# Altium footprint library PCB_Lib.PcbLib: 286 footprints (part 7 of 18)
Each footprint in its own frame and in the unit in brackets; x right, y up, seen from the top. Pads: shape width x height; smd on the part's side, far side on the other; paste and mask are expansions set on the pad; w line width, h text height; cw(c..) or ccw(c..) is an arc to the next point about the centre after c.
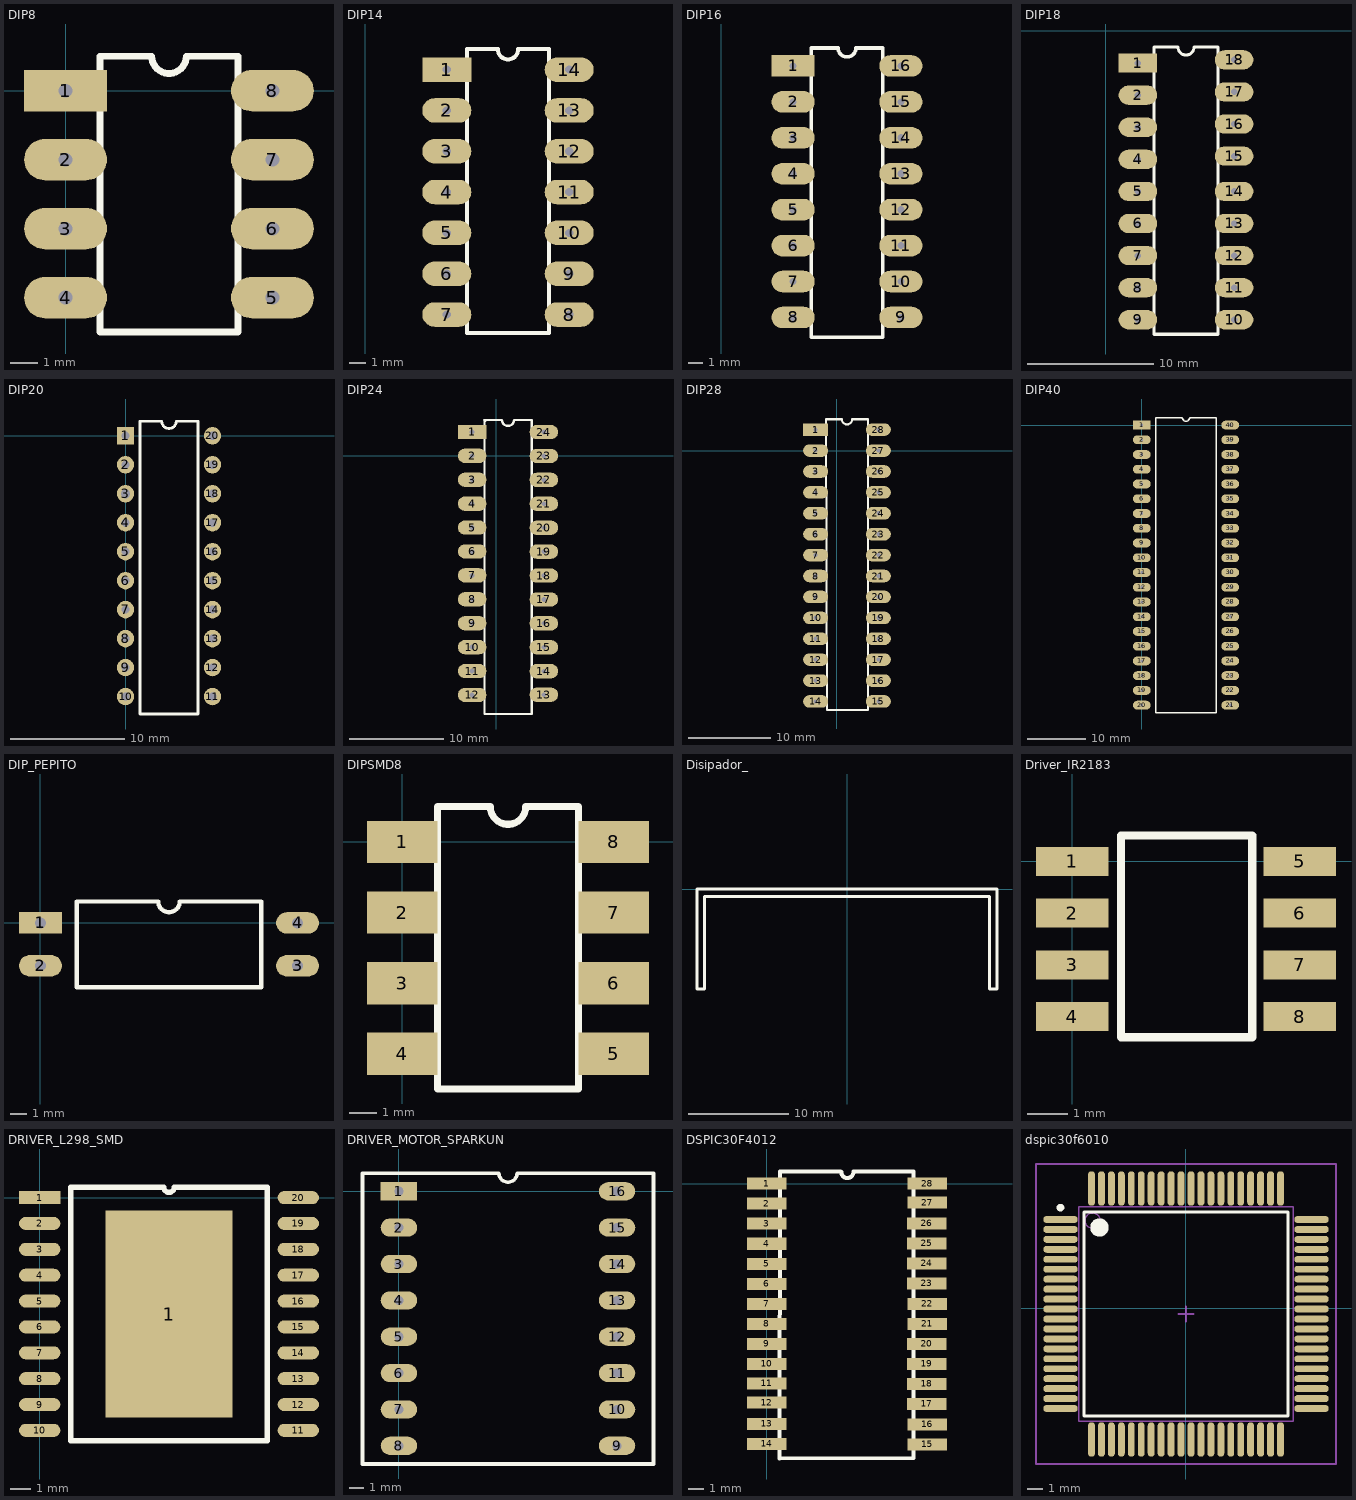
[diagram p6: the footprints below, top view; thin cyan lines are the x and y axes]

## DIP8 [mil] "CI 8"
pads (8):
  rect 120x60 hole 20: 1(0,0)
  oval 120x60 hole 20: 2(0,-100) 3(0,-200) 4(0,-300) 5(300,-300) 6(300,-200) 7(300,-100) 8(300,0)
Top Overlay:
  lines w10: 50,-350 250,-350 250,50 175,50 cw(c150,50) 125,50 50,50 50,-350

## DIP14 [mil]
height 100
pads (14):
  rect 120x60 hole 20: 1(200,-200)
  oval 120x60 hole 20: 2(200,-300) 3(200,-400) 4(200,-500) 5(200,-600) 6(200,-700) 7(200,-800) 8(500,-800) 9(500,-700) 10(500,-600) 11(500,-500) 12(500,-400) 13(500,-300) 14(500,-200)
Top Overlay:
  lines w10: 250,-845 250,-150 325,-150 ccw(c350,-150) 375,-150 450,-150 450,-845 250,-845

## DIP16 [mil]
height 100
pads (16):
  rect 120x60 hole 20: 1(200,-200)
  oval 120x60 hole 20: 2(200,-300) 3(200,-400) 4(200,-500) 5(200,-600) 6(200,-700) 7(200,-800) 8(200,-900) 9(500,-900) 10(500,-800) 11(500,-700) 12(500,-600) 13(500,-500) 14(500,-400) 15(500,-300) 16(500,-200)
Top Overlay:
  lines w10: 250,-955 250,-150 325,-150 ccw(c350,-150) 375,-150 450,-150 450,-955 250,-955

## DIP18 [mil] "circioto integrado 18 pates"
pads (18):
  rect 120x60 hole 20: 1(100,-100)
  oval 120x60 hole 20: 2(100,-200) 3(100,-300) 4(100,-400) 5(100,-500) 6(100,-600) 7(100,-700) 8(100,-800) 9(100,-900) 10(400,-900) 11(400,-800) 12(400,-700) 13(400,-600) 14(400,-500) 15(400,-390) 16(400,-290) 17(400,-190) 18(400,-90)
Top Overlay:
  lines w10: 150,-945 350,-945 350,-50 275,-50 cw(c250,-50) 225,-50 150,-50 150,-945

## DIP20 [mil]
pads (20):
  rect 60x60 hole 28: 1(0,0)
  round 60 hole 28: 2(0,-100) 4(0,-300) 5(0,-400) 6(0,-500) 7(0,-600) 8(0,-700) 9(0,-800) 10(0,-900) 11(300,-900) 12(300,-800) 13(300,-700) 14(300,-600) 15(300,-500) 16(300,-400) 17(300,-300) 18(300,-200) 19(300,-100) 20(300,0)
  round 60 hole 32: 3(0,-200)
Top Overlay:
  lines w10: 50,-960 50,50 125,50 ccw(c150,50) 175,50 250,50 250,-960 50,-960

## DIP24 [mil]
height 100
pads (24):
  rect 120x60 hole 20: 1(-100,100)
  oval 120x60 hole 20: 2(-100,0) 3(-100,-100) 4(-100,-200) 5(-100,-300) 6(-100,-400) 7(-100,-500) 8(-100,-600) 9(-100,-700) 10(-100,-800) 11(-100,-900) 12(-100,-1000) 13(200,-999.02) 14(200,-900.59) 15(200,-800.59) 16(200,-700.59) 17(200,-600.59) 18(200,-500.59) 19(200,-400.59) 20(200,-300.59) 21(200,-200.59) 22(200,-100.59) 23(200,-0.59) 24(200,99.41)
Top Overlay:
  lines w10: -50,150 25,150 ccw(c50,150) 75,150 150,150 ; -41.34,150 -48.23,143.11 -48.23,-1079.72 150,-1079.72 ; 150,-1079.72 150,150 ; 150,-1079.72 150,150

## DIP28 [mil]
height 100
pads (28):
  rect 120x60 hole 20: 1(-100,100)
  oval 120x60 hole 20: 2(-100,0) 3(-100,-100) 4(-100,-200) 5(-100,-300) 6(-100,-400) 7(-100,-500) 8(-100,-600) 9(-100,-700) 10(-100,-800) 11(-100,-900) 12(-100,-1000) 13(-100,-1100) 14(-100,-1200) 15(200,-1200) 16(200,-1100) 17(200,-1000) 18(200,-900) 19(200,-800) 20(200,-700) 21(200,-600) 22(200,-500) 23(200,-400) 24(200,-300) 25(200,-200) 26(200,-100) 27(200,0) 28(200,100)
Top Overlay:
  lines w10: -50,150 25,150 ccw(c50,150) 75,150 150,150 150,-1240 45,-1240 -45,-1240 -50,150

## DIP40 [mil]
pads (40):
  rect 120x60 hole 20: 1(0,0)
  oval 120x60 hole 20: 2(0,-100) 3(0,-200) 4(0,-300) 5(0,-400) 6(0,-500) 7(0,-600) 8(0,-700) 9(0,-800) 10(0,-900) 11(0,-1000) 12(0,-1100) 13(0,-1200) 14(0,-1300) 15(0,-1400) 16(0,-1500) 17(0,-1600) 18(0,-1700) 19(0,-1800) 20(0,-1900) 21(600,-1900) 22(600,-1800) 23(600,-1700) 24(600,-1600) 25(600,-1500) 26(600,-1400) 27(600,-1300) 28(600,-1200) 29(600,-1100) 30(600,-1000) 31(600,-900) 32(600,-800) 33(600,-700) 34(600,-600) 35(600,-500) 36(600,-400) 37(600,-300) 38(600,-200) 39(600,-100) 40(600,0)
Top Overlay:
  lines w10: 95,-1950 505,-1950 505,50 325,50 cw(c300,50) 275,50 95,50 95,-1950

## DIP_PEPITO [mil]
pads (4):
  rect 100x50 hole 25: 1(0,0)
  oval 100x50 hole 25: 2(0,-100) 3(600,-100) 4(600,0)
Top Overlay:
  lines w10: 85,-150 515,-150 515,50 325,50 cw(c300,50) 275,50 85,50 85,-150

## DIPSMD8 [mil]
pads (8):
  rect 100x60 smd: 1(0,0) 2(0,-100) 3(0,-200) 4(0,-300) 5(300,-300) 6(300,-200) 7(300,-100) 8(300,0)
Top Overlay:
  lines w10: 50,-350 50,50 125,50 ccw(c150,50) 175,50 250,50 250,-350 50,-350

## Disipador_ [mil]
Top Overlay:
  lines w10: -590.55,-393.7 -590.55,0 0,0 590.55,0 590.55,-393.7 561.02,-393.7 561.02,-29.53 -561.02,-29.53 -561.02,-354.33 -561.02,-393.7 -590.55,-393.7

## Driver_IR2183 [mil]
pads (8):
  rect 70x28 smd: 1(0,0) 2(0,-50) 3(0,-100) 4(0,-150) 5(220,0) 6(220,-50) 7(220,-100) 8(220,-150)
Top Overlay:
  lines w7.87: 47,-170 47,25 174,25 174,-170 47,-170

## DRIVER_L298_SMD [mil]
pads (21):
  rect 80x25 smd: 1(0,0)
  rect 245x400 smd: 1(250,-225)
  oval 80x25 smd: 2(0,-50) 3(0,-100) 4(0,-150) 5(0,-200) 6(0,-250) 7(0,-300) 8(0,-350) 9(0,-400) 10(0,-450) 11(500,-450) 12(500,-400) 13(500,-350) 14(500,-300) 15(500,-250) 16(500,-200) 17(500,-150) 18(500,-100) 19(500,-50) 20(500,0)
Top Overlay:
  lines w10: 60,-470 440,-470 440,20 260,20 cw(c250,20) 240,20 60,20 60,-470

## DRIVER_MOTOR_SPARKUN [mil]
pads (16):
  rect 100x50 hole 25: 1(0,0)
  oval 100x50 hole 25: 2(0,-100) 3(0,-200) 4(0,-300) 5(0,-400) 6(0,-500) 7(0,-600) 8(0,-700) 9(600,-700) 10(600,-600) 11(600,-500) 12(600,-400) 13(600,-300) 14(600,-200) 15(600,-100) 16(600,0)
Top Overlay:
  lines w10: -100,-750 -100,50 275,50 ccw(c300,50) 325,50 700,50 700,-750 -100,-750

## DSPIC30F4012 [mil]
pads (28):
  rect 98.43x30 smd: 1(0,0) 2(0,-50) 3(0,-100) 4(0,-150) 5(0,-200) 6(0,-250) 7(0,-300) 8(0,-350) 9(0,-400) 10(0,-450) 11(0,-499) 12(0,-547) 13(0,-600) 14(0,-650) 15(400,-651) 16(400,-601) 17(399,-550) 18(399,-500) 19(399,-450) 20(399,-400) 21(400,-350) 22(400,-300) 23(399,-249) 24(399,-199) 25(399,-149) 26(399,-99) 27(400,-47) 28(400,0)
Top Overlay:
  lines w10: 184,30 33,30 32,-686 366,-685 366,-479 366,-224 366,30 216,30 ; 186.02,29.79 ccw(c201,29) 216,29

## dspic30f6010 [mm] "pines 100mil longitud"
pads (80):
  oval 2.25x0.45 smd: 1(-8.2,5.794) 2(-8.2,5.144) 3(-8.2,4.494) 4(-8.2,3.844) 5(-8.2,3.194) 6(-8.2,2.544) 7(-8.2,1.894) 8(-8.2,1.244) 9(-8.2,0.594) 10(-8.2,-0.056) 11(-8.2,-0.706) 12(-8.2,-1.356) 13(-8.2,-2.006) 14(-8.2,-2.656) 15(-8.2,-3.306) 16(-8.2,-3.956) 17(-8.2,-4.606) 18(-8.2,-5.256) 19(-8.2,-5.906) 20(-8.2,-6.556) 41(8.2,-6.556) 42(8.2,-5.906) 43(8.2,-5.256) 44(8.2,-4.606) 45(8.2,-3.956) 46(8.2,-3.306) 47(8.2,-2.656) 48(8.2,-2.006) 49(8.2,-1.356) 50(8.2,-0.706) 51(8.2,-0.056) 52(8.2,0.594) 53(8.2,1.244) 54(8.2,1.894) 55(8.2,2.544) 56(8.2,3.194) 57(8.2,3.844) 58(8.2,4.494) 59(8.2,5.144) 60(8.2,5.794)
  oval 0.45x2.25 smd: 21(-6.175,-8.581) 22(-5.525,-8.581) 23(-4.875,-8.581) 24(-4.225,-8.581) 25(-3.575,-8.581) 26(-2.925,-8.581) 27(-2.275,-8.581) 28(-1.625,-8.581) 29(-0.975,-8.581) 30(-0.325,-8.581) 31(0.325,-8.581) 32(0.975,-8.581) 33(1.625,-8.581) 34(2.275,-8.581) 35(2.925,-8.581) 36(3.575,-8.581) 37(4.225,-8.581) 38(4.875,-8.581) 39(5.525,-8.581) 40(6.175,-8.581) 61(6.175,7.819) 62(5.525,7.819) 63(4.875,7.819) 64(4.225,7.819) 65(3.575,7.819) 66(2.925,7.819) 67(2.275,7.819) 68(1.625,7.819) 69(0.975,7.819) 70(0.325,7.819) 71(-0.325,7.819) 72(-0.975,7.819) 73(-1.625,7.819) 74(-2.275,7.819) 75(-2.925,7.819) 76(-3.575,7.819) 77(-4.225,7.819) 78(-4.875,7.819) 79(-5.525,7.819) 80(-6.175,7.819)
Top Overlay:
  circle w0.6: c-5.65,5.269 r0.3
  circle w0.25: c-8.2,6.569 r0.125
  lines w0.2: -6.65,-7.031 6.65,-7.031 6.65,6.269 -6.65,6.269 -6.65,-7.031
Mechanical 13:
  circle w0.1: c-6.1,5.719 r0.5
  lines w0.1: -7,-7.381 7,-7.381 7,6.619 -7,6.619 -7,-7.381
Mechanical 15:
  lines w0.1: -0.5,-0.381 0.5,-0.381 ; 0,-0.881 0,0.119 ; -9.8,-10.181 9.8,-10.181 9.8,9.419 -9.8,9.419 -9.8,-10.181
3D body: height 2.45, standoff 0, extent -7,-7.381 7,6.619